# Altium footprint library QFP_Rect_80P_Side_M.PcbLib: 4 footprints
Each footprint in its own frame and in the unit in brackets; x right, y up, seen from the top. Pads: shape width x height; smd on the part's side, far side on the other; paste and mask are expansions set on the pad; w line width, h text height; cw(c..) or ccw(c..) is an arc to the next point about the centre after c.
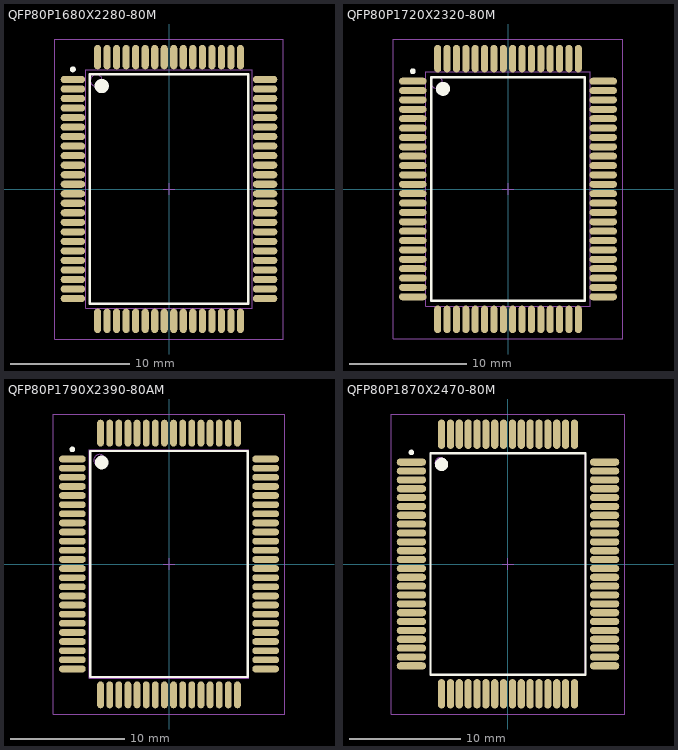
[diagram p0: the footprints below, top view; thin cyan lines are the x and y axes]

## QFP80P1680X2280-80M [mm] "80-Pin Quad Flat Pack Rectangular 0.8 mm Pitch"
height 3.05
pads (80):
  oval 2.05x0.6 smd: 1(-8.075,9.2) 2(-8.075,8.4) 3(-8.075,7.6) 4(-8.075,6.8) 5(-8.075,6) 6(-8.075,5.2) 7(-8.075,4.4) 8(-8.075,3.6) 9(-8.075,2.8) 10(-8.075,2) 11(-8.075,1.2) 12(-8.075,0.4) 13(-8.075,-0.4) 14(-8.075,-1.2) 15(-8.075,-2) 16(-8.075,-2.8) 17(-8.075,-3.6) 18(-8.075,-4.4) 19(-8.075,-5.2) 20(-8.075,-6) 21(-8.075,-6.8) 22(-8.075,-7.6) 23(-8.075,-8.4) 24(-8.075,-9.2) 41(8.075,-9.2) 42(8.075,-8.4) 43(8.075,-7.6) 44(8.075,-6.8) 45(8.075,-6) 46(8.075,-5.2) 47(8.075,-4.4) 48(8.075,-3.6) 49(8.075,-2.8) 50(8.075,-2) 51(8.075,-1.2) 52(8.075,-0.4) 53(8.075,0.4) 54(8.075,1.2) 55(8.075,2) 56(8.075,2.8) 57(8.075,3.6) 58(8.075,4.4) 59(8.075,5.2) 60(8.075,6) 61(8.075,6.8) 62(8.075,7.6) 63(8.075,8.4) 64(8.075,9.2)
  oval 0.6x2.05 smd: 25(-6,-11.075) 26(-5.2,-11.075) 27(-4.4,-11.075) 28(-3.6,-11.075) 29(-2.8,-11.075) 30(-2,-11.075) 31(-1.2,-11.075) 32(-0.4,-11.075) 33(0.4,-11.075) 34(1.2,-11.075) 35(2,-11.075) 36(2.8,-11.075) 37(3.6,-11.075) 38(4.4,-11.075) 39(5.2,-11.075) 40(6,-11.075) 65(6,11.075) 66(5.2,11.075) 67(4.4,11.075) 68(3.6,11.075) 69(2.8,11.075) 70(2,11.075) 71(1.2,11.075) 72(0.4,11.075) 73(-0.4,11.075) 74(-1.2,11.075) 75(-2,11.075) 76(-2.8,11.075) 77(-3.6,11.075) 78(-4.4,11.075) 79(-5.2,11.075) 80(-6,11.075)
Top Overlay:
  circle w0.6: c-5.65,8.65 r0.3
  circle w0.25: c-8.075,10.05 r0.125
  lines w0.2: -6.65,-9.65 6.65,-9.65 6.65,9.65 -6.65,9.65 -6.65,-9.65
Mechanical 13:
  circle w0.1: c-6.1,9.1 r0.5
  lines w0.1: -7,-10 7,-10 7,10 -7,10 -7,-10
Mechanical 15:
  lines w0.1: -0.5,0 0.5,0 ; 0,-0.5 0,0.5 ; -9.6,-12.6 9.6,-12.6 9.6,12.6 -9.6,12.6 -9.6,-12.6
3D body: height 3.05, standoff 0, extent -7,-10 7,10

## QFP80P1720X2320-80M [mm] "QFP, 80-Leads, Body 20x14mm, Pitch 0.8mm, IPC Low Density"
height 2.45
pads (80):
  oval 2.35x0.6 smd: 1(-8.125,9.2) 2(-8.125,8.4) 3(-8.125,7.6) 4(-8.125,6.8) 5(-8.125,6) 6(-8.125,5.2) 7(-8.125,4.4) 8(-8.125,3.6) 9(-8.125,2.8) 10(-8.125,2) 11(-8.125,1.2) 12(-8.125,0.4) 13(-8.125,-0.4) 14(-8.125,-1.2) 15(-8.125,-2) 16(-8.125,-2.8) 17(-8.125,-3.6) 18(-8.125,-4.4) 19(-8.125,-5.2) 20(-8.125,-6) 21(-8.125,-6.8) 22(-8.125,-7.6) 23(-8.125,-8.4) 24(-8.125,-9.2) 41(8.125,-9.2) 42(8.125,-8.4) 43(8.125,-7.6) 44(8.125,-6.8) 45(8.125,-6) 46(8.125,-5.2) 47(8.125,-4.4) 48(8.125,-3.6) 49(8.125,-2.8) 50(8.125,-2) 51(8.125,-1.2) 52(8.125,-0.4) 53(8.125,0.4) 54(8.125,1.2) 55(8.125,2) 56(8.125,2.8) 57(8.125,3.6) 58(8.125,4.4) 59(8.125,5.2) 60(8.125,6) 61(8.125,6.8) 62(8.125,7.6) 63(8.125,8.4) 64(8.125,9.2)
  oval 0.6x2.35 smd: 25(-6,-11.125) 26(-5.2,-11.125) 27(-4.4,-11.125) 28(-3.6,-11.125) 29(-2.8,-11.125) 30(-2,-11.125) 31(-1.2,-11.125) 32(-0.4,-11.125) 33(0.4,-11.125) 34(1.2,-11.125) 35(2,-11.125) 36(2.8,-11.125) 37(3.6,-11.125) 38(4.4,-11.125) 39(5.2,-11.125) 40(6,-11.125) 65(6,11.125) 66(5.2,11.125) 67(4.4,11.125) 68(3.6,11.125) 69(2.8,11.125) 70(2,11.125) 71(1.2,11.125) 72(0.4,11.125) 73(-0.4,11.125) 74(-1.2,11.125) 75(-2,11.125) 76(-2.8,11.125) 77(-3.6,11.125) 78(-4.4,11.125) 79(-5.2,11.125) 80(-6,11.125)
Top Overlay:
  circle w0.6: c-5.55,8.55 r0.3
  circle w0.25: c-8.125,10.05 r0.125
  lines w0.2: -6.55,-9.55 6.55,-9.55 6.55,9.55 -6.55,9.55 -6.55,-9.55
Mechanical 13:
  circle w0.1: c-6.1,9.1 r0.5
  lines w0.1: -7,-10 7,-10 7,10 -7,10 -7,-10
Mechanical 15:
  lines w0.1: -0.5,0 0.5,0 ; 0,-0.5 0,0.5 ; -9.8,-12.8 9.8,-12.8 9.8,12.8 -9.8,12.8 -9.8,-12.8
3D body: height 2.45, standoff 0, extent -7,-10 7,10

## QFP80P1790X2390-80AM [mm] "QFP, 80-Leads, Body 20x14mm, Pitch 0.8mm, IPC Low Density"
height 3.25
pads (80):
  oval 2.35x0.6 smd: 1(-8.475,9.2) 2(-8.475,8.4) 3(-8.475,7.6) 4(-8.475,6.8) 5(-8.475,6) 6(-8.475,5.2) 7(-8.475,4.4) 8(-8.475,3.6) 9(-8.475,2.8) 10(-8.475,2) 11(-8.475,1.2) 12(-8.475,0.4) 13(-8.475,-0.4) 14(-8.475,-1.2) 15(-8.475,-2) 16(-8.475,-2.8) 17(-8.475,-3.6) 18(-8.475,-4.4) 19(-8.475,-5.2) 20(-8.475,-6) 21(-8.475,-6.8) 22(-8.475,-7.6) 23(-8.475,-8.4) 24(-8.475,-9.2) 41(8.475,-9.2) 42(8.475,-8.4) 43(8.475,-7.6) 44(8.475,-6.8) 45(8.475,-6) 46(8.475,-5.2) 47(8.475,-4.4) 48(8.475,-3.6) 49(8.475,-2.8) 50(8.475,-2) 51(8.475,-1.2) 52(8.475,-0.4) 53(8.475,0.4) 54(8.475,1.2) 55(8.475,2) 56(8.475,2.8) 57(8.475,3.6) 58(8.475,4.4) 59(8.475,5.2) 60(8.475,6) 61(8.475,6.8) 62(8.475,7.6) 63(8.475,8.4) 64(8.475,9.2)
  oval 0.6x2.35 smd: 25(-6,-11.475) 26(-5.2,-11.475) 27(-4.4,-11.475) 28(-3.6,-11.475) 29(-2.8,-11.475) 30(-2,-11.475) 31(-1.2,-11.475) 32(-0.4,-11.475) 33(0.4,-11.475) 34(1.2,-11.475) 35(2,-11.475) 36(2.8,-11.475) 37(3.6,-11.475) 38(4.4,-11.475) 39(5.2,-11.475) 40(6,-11.475) 65(6,11.475) 66(5.2,11.475) 67(4.4,11.475) 68(3.6,11.475) 69(2.8,11.475) 70(2,11.475) 71(1.2,11.475) 72(0.4,11.475) 73(-0.4,11.475) 74(-1.2,11.475) 75(-2,11.475) 76(-2.8,11.475) 77(-3.6,11.475) 78(-4.4,11.475) 79(-5.2,11.475) 80(-6,11.475)
Top Overlay:
  circle w0.25: c-8.475,10.05 r0.125
  circle w0.6: c-5.9,8.9 r0.3
  lines w0.2: -6.9,-9.9 -6.9,9.9 6.9,9.9 6.9,-9.9 -6.9,-9.9
Mechanical 13:
  circle w0.1: c-6.1,9.1 r0.5
  lines w0.1: -7,-10 -7,10 7,10 7,-10 -7,-10
Mechanical 15:
  lines w0.1: -0.5,0 0.5,0 ; 0,-0.5 0,0.5 ; -10.15,-13.15 -10.15,13.15 10.15,13.15 10.15,-13.15 -10.15,-13.15
3D body: height 3.25, standoff 0, extent -7,-10 7,10

## QFP80P1870X2470-80M [mm] "QFP, 80-Leads, Body 20x14mm, Pitch 0.8mm, IPC Low Density"
height 2.3
pads (80):
  oval 2.65x0.65 smd: 1(-8.725,9.2) 2(-8.725,8.4) 3(-8.725,7.6) 4(-8.725,6.8) 5(-8.725,6) 6(-8.725,5.2) 7(-8.725,4.4) 8(-8.725,3.6) 9(-8.725,2.8) 10(-8.725,2) 11(-8.725,1.2) 12(-8.725,0.4) 13(-8.725,-0.4) 14(-8.725,-1.2) 15(-8.725,-2) 16(-8.725,-2.8) 17(-8.725,-3.6) 18(-8.725,-4.4) 19(-8.725,-5.2) 20(-8.725,-6) 21(-8.725,-6.8) 22(-8.725,-7.6) 23(-8.725,-8.4) 24(-8.725,-9.2) 41(8.725,-9.2) 42(8.725,-8.4) 43(8.725,-7.6) 44(8.725,-6.8) 45(8.725,-6) 46(8.725,-5.2) 47(8.725,-4.4) 48(8.725,-3.6) 49(8.725,-2.8) 50(8.725,-2) 51(8.725,-1.2) 52(8.725,-0.4) 53(8.725,0.4) 54(8.725,1.2) 55(8.725,2) 56(8.725,2.8) 57(8.725,3.6) 58(8.725,4.4) 59(8.725,5.2) 60(8.725,6) 61(8.725,6.8) 62(8.725,7.6) 63(8.725,8.4) 64(8.725,9.2)
  oval 0.65x2.65 smd: 25(-6,-11.725) 26(-5.2,-11.725) 27(-4.4,-11.725) 28(-3.6,-11.725) 29(-2.8,-11.725) 30(-2,-11.725) 31(-1.2,-11.725) 32(-0.4,-11.725) 33(0.4,-11.725) 34(1.2,-11.725) 35(2,-11.725) 36(2.8,-11.725) 37(3.6,-11.725) 38(4.4,-11.725) 39(5.2,-11.725) 40(6,-11.725) 65(6,11.725) 66(5.2,11.725) 67(4.4,11.725) 68(3.6,11.725) 69(2.8,11.725) 70(2,11.725) 71(1.2,11.725) 72(0.4,11.725) 73(-0.4,11.725) 74(-1.2,11.725) 75(-2,11.725) 76(-2.8,11.725) 77(-3.6,11.725) 78(-4.4,11.725) 79(-5.2,11.725) 80(-6,11.725)
Top Overlay:
  circle w0.6: c-6,9 r0.3
  circle w0.25: c-8.725,10.075 r0.125
  lines w0.2: -7,-10 7,-10 7,10 -7,10 -7,-10
Mechanical 13:
  circle w0.1: c-6.1,9.1 r0.5
  lines w0.1: -7,-10 7,-10 7,10 -7,10 -7,-10
Mechanical 15:
  lines w0.1: -0.5,0 0.5,0 ; 0,-0.5 0,0.5 ; -10.55,-13.55 10.55,-13.55 10.55,13.55 -10.55,13.55 -10.55,-13.55
3D body: height 2.3, standoff 0, extent -7,-10 7,10